# Altium schematic symbol library Sensors_Pressure_Sch.SchLib: 1 symbol
Pins are listed as number, name and electrical type; pins without a type are passive.

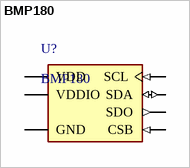
[diagram p0: symbol BMP180]

## BMP180
designator U?
Digital Pressure Sensor, 1.8 to 3.6 V, -40 to 85 degC, 7-Pin LGA, RoHS; Output Type: I²C; Pressure Type: Absolute; Maximum Pressure: 145.04PSI(1000kPa); Voltage - Supply: 1.62V~3.6V; Accuracy: ±2%; Operating Pressure: 4.35PSI~15.95PSI(30kPa~110kPa); Output: 16~19b; Operating Temperature: -40degC~85degC; Package / Case: 7-VLGA; ComponentLink1Description: Link
footprint BOSC-BMP180-7_V (LGA, 7-Leads, Body 3.9x3.8mm, Pitch 1.5mm)
pins: 1 CSB (in) "Chip select", 2 VDD (power) "Power supply", 3 VDDIO (power) "Digital power supply", 4 SDO (out) "SPI output", 5 SCL (in) "I2C serial bus clock input", 6 SDA (io) "I2C serial bus data (or SPI input)", 7 GND (power) "Ground"